# Altium footprint library Buck-boost v3.1.PcbLib: 31 footprints (part 1 of 2)
Each footprint in its own frame and in the unit in brackets; x right, y up, seen from the top. Pads: shape width x height; smd on the part's side, far side on the other; paste and mask are expansions set on the pad; w line width, h text height; cw(c..) or ccw(c..) is an arc to the next point about the centre after c.
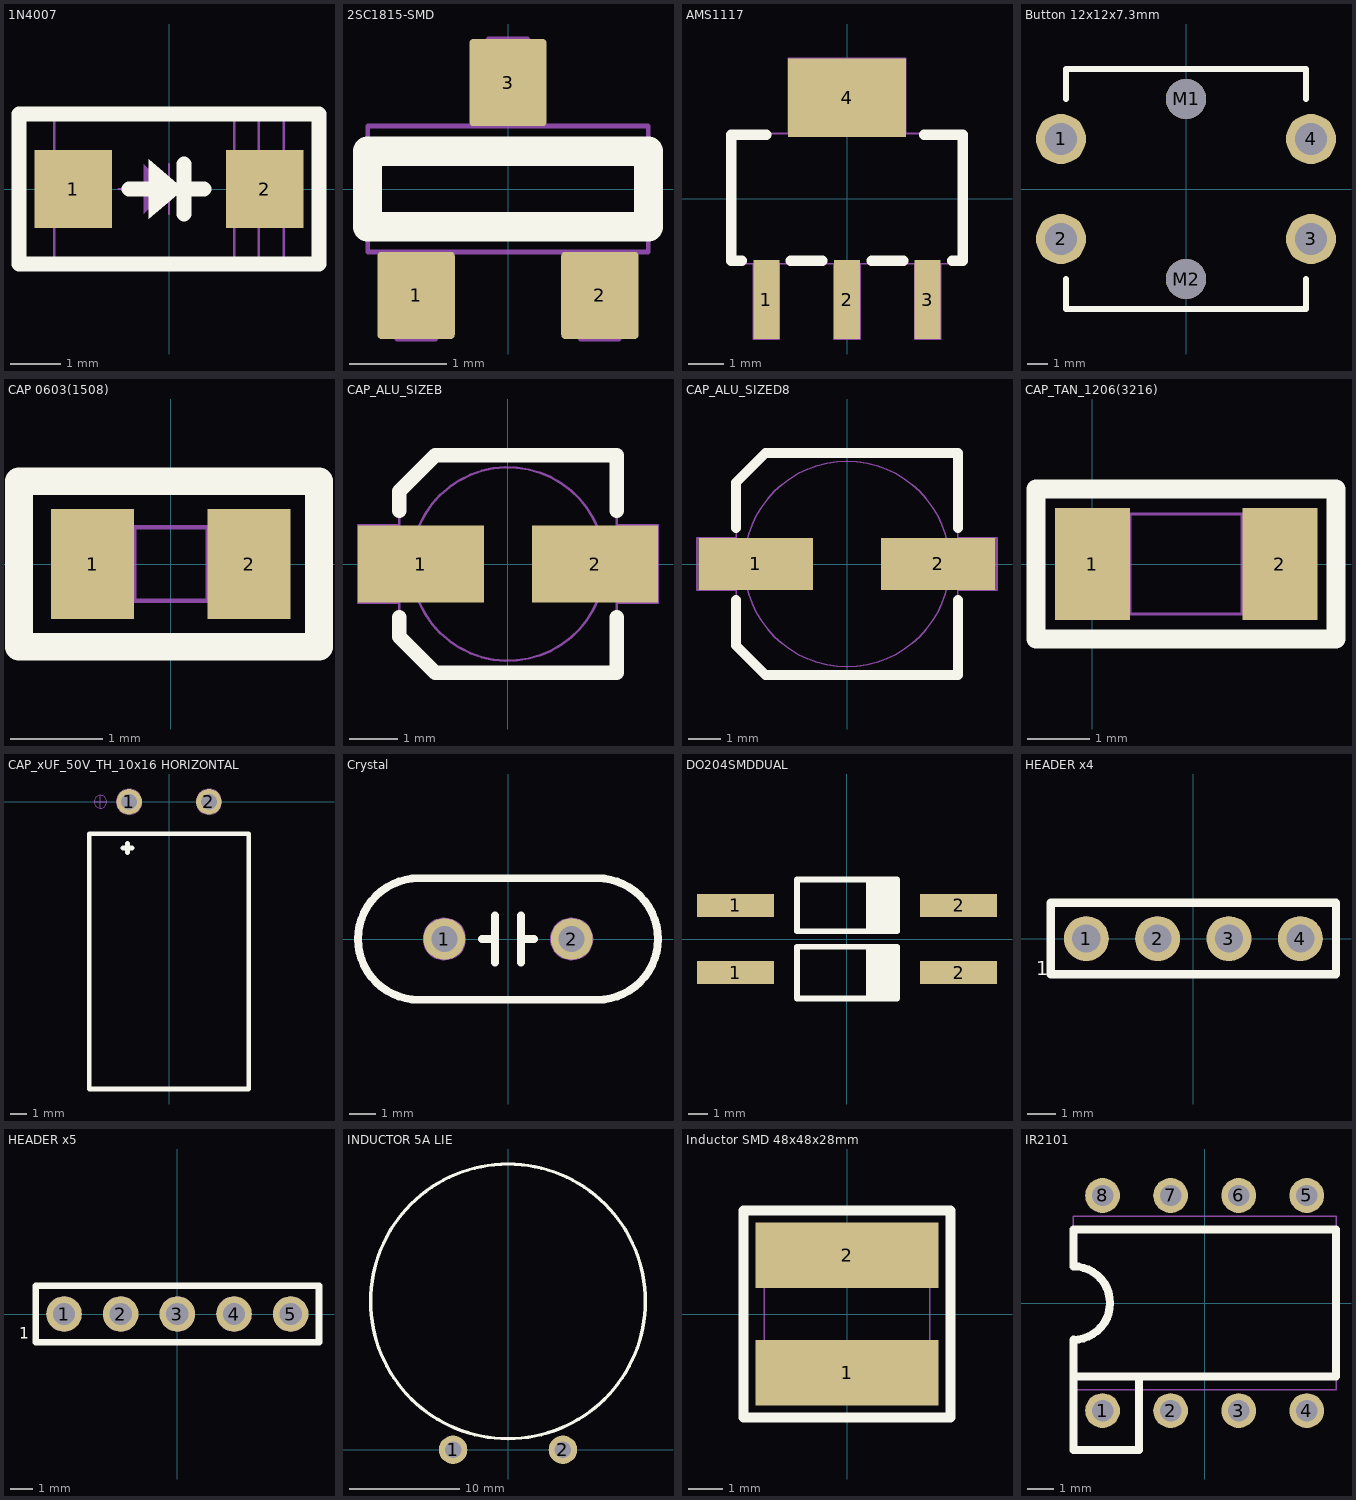
[diagram p0: the footprints below, top view; thin cyan lines are the x and y axes]

## 1N4007 [mm] "DO-214AC"
height 2.438
pads (2):
  rect 1.555x1.57 smd mask+0.1: 1(-1.915,0) 2(1.915,0)
Top Overlay:
  region: -0.4,0.6 -0.4,-0.6 0.3,0
  lines w0.3: -0.8,0 -0.4,0 ; 0.3,-0.5 0.3,0.5 ; 0.4,0 0.7,0 ; -3,-1.5 3,-1.5 3,1.5 -3,1.5 -3,-1.5
Mechanical 1:
  region: -0.5,0.5 -0.5,-0.5 0,0
  lines w0.05: -1,0 -0.5,0 ; 0,-0.5 0,0.5 ; 0,0 0.5,0 ; 1.3,-1.448 1.3,1.448 ; 1.8,-1.448 1.8,1.448 ; -2.299,-1.448 2.298,-1.448 2.298,1.448 -2.299,1.448 -2.299,-1.448
3D body: height 2.15, standoff -0.05, extent -2.5,-1.35 2.5,1.35

## 2SC1815-SMD [mm] "NPN-VCE=50V,IC=150mA"
height 1.07
pads (3):
  rrect10% 0.8x0.9 smd mask+0.1: 1(-0.95,-1.1) 2(0.95,-1.1) 3(0,1.1)
Top Overlay:
  lines w0.3: -1.45,-0.39 1.45,-0.39 1.45,0.39 -1.45,0.39 -1.45,-0.39
Mechanical 1:
  lines w0.05: -0.2,0.65 -0.2,1.55 0.2,1.55 0.2,0.65 ; 0.75,-0.65 0.75,-1.55 1.15,-1.55 1.15,-0.65 ; -1.15,-1.55 -1.15,-0.65 -1.15,-1.55 ; -1.15,-1.55 -0.75,-1.55 ; -1.15,-1.55 -0.75,-1.55 ; -0.75,-1.55 -0.75,-0.65 -0.75,-1.55 ; -1.45,-0.65 1.45,-0.65 1.45,0.65 -1.45,0.65 -1.45,-0.65
  text "E" at 0.76,-0.41 h0.8
  text "C" at -0.27,-0.27 h0.8
  text "B" at -1.28,-0.47 h0.8
3D body: height 1, standoff 0, extent -1.44,-1.185 1.46,1.185

## AMS1117 [mm]
height 1.8
pads (4):
  rect 0.74x2.248 smd paste+0 mask+0.1: 1(-2.3,-2.876)
  rect 0.74x2.248 smd mask+0.1: 2(0,-2.876) 3(2.3,-2.876)
  rect 3.35x2.248 smd mask+0.1: 4(0,2.876)
Top Overlay:
  lines w0.3: -3,-1.776 -3.3,-1.776 -3.3,1.824 -2.3,1.824 ; -1.6,-1.776 -0.7,-1.776 ; 0.7,-1.776 1.6,-1.776 ; 2.2,1.824 3.3,1.824 3.3,-1.776 3,-1.776
Mechanical 1:
  lines w0.05: -2.67,-1.855 -2.67,-4 -1.93,-4 -1.93,-1.855 ; -1.675,1.855 -1.675,4 1.675,4 1.675,1.855 ; -0.37,-1.855 -0.37,-4 0.37,-4 0.37,-1.855 ; 1.93,-1.855 1.93,-4 2.67,-4 2.67,-1.855 ; -3.355,-1.855 -3.355,1.855 3.355,1.855 3.355,-1.855 -3.355,-1.855
  text "AMS1117" at -3.1,-0.5 h1
3D body: height 1.85, standoff -0.01, extent -3.3,-3.4 3.2,3.6

## Button 12x12x7.3mm [mm]
pads (6):
  round 2.5 hole 1.6 mask+0.1: 1(-6.25,2.5) 2(-6.25,-2.5) 3(6.25,-2.5) 4(6.25,2.5)
  round 2 hole 2 mask+0.1: M1(0,4.5) M2(0,-4.5)
Top Overlay:
  lines w0.3: -6,-4.5 -6,-6 6,-6 6,-4.5 ; -6,4.5 -6,6 6,6 6,4.5
3D body: height 14.7, standoff -2.8, extent -6.663,-6.121 6.787,5.879

## CAP 0603(1508) [mm] "Capacitor 0603"
height 0.9
pads (2):
  rect 0.9x1.2 smd mask+0.1: 1(-0.85,0) 2(0.85,0)
Top Overlay:
  lines w0.3: -1.65,-0.9 -1.65,0.9 1.61,0.9 1.61,-0.9 -1.65,-0.9
Mechanical 1:
  lines w0.05: -0.4,-0.4 -0.4,0.4 ; 0.4,-0.4 0.4,0.4 ; -0.8,-0.4 -0.8,0.4 0.8,0.4 0.8,-0.4 -0.8,-0.4
3D body: height 0.83, standoff -0.03, extent -0.8,-0.43 0.8,0.43

## CAP_ALU_SIZEB [mm] "Panasonic Aluminum Capacitor"
height 5.5
pads (2):
  rect 2.6x1.6 smd mask+0.1: 1(-1.8,0) 2(1.8,0)
Top Overlay:
  lines w0.3: -2.25,-1.1 -2.25,-1.5 -1.5,-2.25 2.25,-2.25 2.25,-1.1 ; -2.25,1.1 -2.25,1.5 -1.5,2.25 2.25,2.25 2.25,1.1
Mechanical 1:
  circle w0.05: c0,0 r2
  lines w0.05: -2.25,-0.8 -3.1,-0.8 -3.1,0.8 -2.25,0.8 ; 2.25,-0.8 3.1,-0.8 3.1,0.8 2.25,0.8 ; -2.25,-1.5 -1.5,-2.25 2.25,-2.25 2.25,2.25 -1.5,2.25 -2.25,1.5 -2.25,-1.5
3D body: height 5.7, standoff 0, extent -2.65,-2.15 2.65,2.15

## CAP_ALU_SIZED8 [mm] "Panasonic Aluminum Capacitor"
height 8
pads (2):
  rect 3.5x1.6 smd mask+0.1: 1(-2.8,0) 2(2.8,0)
Top Overlay:
  lines w0.3: -3.4,-1.1 -3.4,-2.5 -2.5,-3.4 3.4,-3.4 3.4,-1.1 ; -3.4,1.1 -3.4,2.5 -2.5,3.4 3.4,3.4 3.4,1.1
Mechanical 1:
  circle w0.05: c0,0 r3.15
  lines w0.05: -3.4,-0.8 -4.6,-0.8 -4.6,0.8 -3.4,0.8 ; 3.4,-0.8 4.6,-0.8 4.6,0.8 3.4,0.8 ; -3.4,-2.5 -3.4,2.5 -2.5,3.4 3.4,3.4 3.4,-3.4 -2.5,-3.4 -3.4,-2.5
3D body: height 8, standoff 0, extent -3.8,-3.3 3.8,3.3

## CAP_TAN_1206(3216) [mm] "Tantalum Capacitor 1206"
height 1.6
pads (2):
  rect 1.2x1.8 smd mask+0.1: 1(0,0) 2(3,0)
Top Overlay:
  lines w0.3: -0.9,-1.2 3.9,-1.2 3.9,1.2 -0.9,1.2 -0.9,-1.2
Mechanical 1:
  lines w0.05: 0.6,-0.8 0.6,0.8 ; 2.4,-0.8 2.4,0.8 ; -0.1,-0.8 -0.1,0.8 3.1,0.8 3.1,-0.8 -0.1,-0.8
3D body: height 1.7, standoff 0, extent -0.2,-0.9 3.2,0.9

## CAP_xUF_50V_TH_10x16 HORIZONTAL [mm] "Use for 220uF Capacitor Through Hole"
height 17.5
pads (2):
  round 1.6 hole 1 mask+0.1: 1(-2.5,0) 2(2.5,0)
Top Overlay:
  lines w0.3: -2.9,-2.9 -2.3,-2.9 ; -2.6,-3.2 -2.6,-2.6 ; -5,-18 -5,-2 5,-2 5,-18 -5,-18
Mechanical 1:
  circle w0.05: c-4.3,0 r0.4
  circle w0.05: c2.5,0 r0.8
  circle w0.05: c-2.5,0 r0.8
  lines w0.05: -4.7,0 -3.9,0 ; -4.3,-0.4 -4.3,0.4
3D body: height 10.03, standoff -0.03, extent -5.051,-18.033 5,2.233

## Crystal [mm] "HC-49/U-S"
height 3.5
pads (2):
  round 1.6 hole 1 mask+0.1: 1(-2.44,0) 2(2.44,0)
Top Overlay:
  lines w0.3: -1,0 -0.5,0 ; -0.5,-0.9 -0.5,0.9 ; 0.5,-0.9 0.5,0.9 ; 0.5,0 1,0 ; -3.42,-2.33 cw(c-3.42,0) -3.42,2.33 3.42,2.33 cw(c3.42,0) 3.42,-2.33 -3.42,-2.33
Mechanical 1:
  circle w0.05: c2.44,0 r0.8
  circle w0.05: c-2.44,0 r0.8
  lines w0.05: -1,0 -0.5,0 ; -0.5,-1 -0.5,-0.5 -0.5,1 ; 0.5,-1 0.5,1 ; 0.5,0 1,0 ; -3.42,-2.33 cw(c-3.42,0) -3.42,2.33 3.42,2.33 cw(c3.42,0) 3.42,-2.33 -3.42,-2.33
3D body: height 3.6, standoff -1.99, extent -5.675,-2.325 5.675,2.325

## DO204SMDDUAL [mm]
pads (4):
  rect 4x1.2 smd mask+0.1: 1(-5.8,-1.75) 1(-5.8,1.75) 2(5.8,-1.75) 2(5.8,1.75)
Top Overlay:
  rectangle: 1,0.45 2.6,3.15
  rectangle: 1,-3.05 2.6,-0.35
  lines w0.3: -2.6,-3.1 -2.6,-0.4 2.6,-0.4 2.6,-3.1 -2.6,-3.1 ; -2.6,0.4 2.6,0.4 2.6,3.1 -2.6,3.1 -2.6,0.4

## HEADER x4 [mm] "Header 4"
height 8.38
pads (4):
  round 1.6 hole 1 mask+0.1: 1(-3.81,0) 2(-1.27,0) 3(1.27,0) 4(3.81,0)
Top Overlay:
  lines w0.3: -5.08,-1.27 5.08,-1.27 5.08,1.27 -5.08,1.27 -5.08,-1.27
  text "1" at -5.6,-1.3 h0.5
Mechanical 1:
  circle w0.05: c3.81,0 r0.762
  circle w0.05: c1.27,0 r0.762
  circle w0.05: c-1.27,0 r0.762
  circle w0.05: c-3.81,0 r0.762
  lines w0.05: -5.08,-1.27 5.08,-1.27 5.08,1.27 -5.08,1.27 -5.08,-1.27
  text "4" at 3.52,-0.36 h0.8
  text "3" at 1.02,-0.36 h0.8
  text "2" at -1.58,-0.36 h0.8
  text "1" at -3.98,-0.36 h0.8
3D body: height 5.94, standoff -2.94, extent -5.11,-1.3 -2.57,1.24
3D body: height 5.94, standoff -2.94, extent -2.57,-1.3 -0.03,1.24
3D body: height 5.94, standoff -2.94, extent 2.51,-1.3 5.05,1.24
3D body: height 5.94, standoff -2.94, extent -0.03,-1.3 2.51,1.24

## HEADER x5 [mm] "Header 5"
height 8.38
pads (5):
  round 1.6 hole 1 mask+0.1: 1(-5.08,0) 2(-2.54,0) 3(0,0) 4(2.54,0) 5(5.08,0)
Top Overlay:
  lines w0.3: -6.35,-1.27 6.35,-1.27 6.35,1.27 -6.35,1.27 -6.35,-1.27
  text "1" at -7.1,-1.1 h0.5
Mechanical 1:
  circle w0.05: c5.08,0 r0.762
  circle w0.05: c2.54,0 r0.762
  circle w0.05: c0,0 r0.762
  circle w0.05: c-2.54,0 r0.762
  circle w0.05: c-5.08,0 r0.762
  lines w0.05: -6.35,-1.27 6.35,-1.27 6.35,1.27 -6.35,1.27 -6.35,-1.27
  text "5" at 4.82,-0.4 h0.8
  text "1" at -5.18,-0.4 h0.8
  text "2" at -2.78,-0.4 h0.8
  text "3" at -0.2,-0.4 h0.8
  text "4" at 2.2,-0.4 h0.8
3D body: height 5.94, standoff -2.94, extent 3.78,-1.3 6.32,1.24
3D body: height 5.94, standoff -2.94, extent 1.24,-1.3 3.78,1.24
3D body: height 5.94, standoff -2.94, extent -1.3,-1.3 1.24,1.24
3D body: height 5.94, standoff -2.94, extent -3.84,-1.3 -1.3,1.24
3D body: height 5.94, standoff -2.94, extent -6.38,-1.3 -3.84,1.24

## INDUCTOR 5A LIE [mm]
pads (2):
  round 2.6 hole 1.5 mask+0.1: 1(-5,0) 2(5,0)
Top Overlay:
  circle w0.3: c0,13.5 r12.5
3D body: height 16, standoff -2.5, extent -12.65,0.55 12.65,26.096

## Inductor SMD 48x48x28mm [mm]
height 28
pads (2):
  rect 5.3x1.9 smd mask+0.1: 1(0,-1.7) 2(0,1.7)
Top Overlay:
  lines w0.3: -3,-3 -3,3 3,3 3,-3 -3,-3
Mechanical 1:
  lines w0.05: -2.4,-2.4 -2.4,2.4 2.4,2.4 2.4,-2.4 -2.4,-2.4
3D body: height 2.7, standoff -0.1, extent -2.4,-2.4 2.4,2.4

## IR2101 [mm] "DIP-8"
height 5.33
pads (8):
  round 1.3 hole 0.8 mask+0.1: 1(-3.81,-4.012) 2(-1.27,-4.012) 3(1.27,-4.012) 4(3.81,-4.012) 5(3.81,4.013) 6(1.27,4.013) 7(-1.27,4.013) 8(-3.81,4.013)
Top Overlay:
  lines w0.3: -2.45,-2.74 -2.45,-5.48 -4.9,-5.48 -4.9,-2.74 ; -4.9,-2.74 -4.9,-1.37 ccw(c-4.9,0) -4.9,1.37 -4.9,2.74 4.9,2.74 4.9,-2.74 -4.9,-2.74
Mechanical 1:
  lines w0.05: -4.9,-1.412 -4.9,-3.24 4.9,-3.24 4.9,3.24 -4.9,3.24 -4.9,1.388 ; -4.9,-1.393 ccw(c-4.9,0) -4.9,1.393
  text "5" at 3.64,2.05 h0.8
  text "8" at -4.03,2.02 h0.8
  text "4" at 3.69,-3.012 h0.8
  text "1" at -3.91,-2.912 h0.8
3D body: height 5.08, standoff -3.5, extent -5.62,-3.997 5.3,3.873